# EAGLE library part TLC549 (library texas)
8 bit ADC with 3-wire output
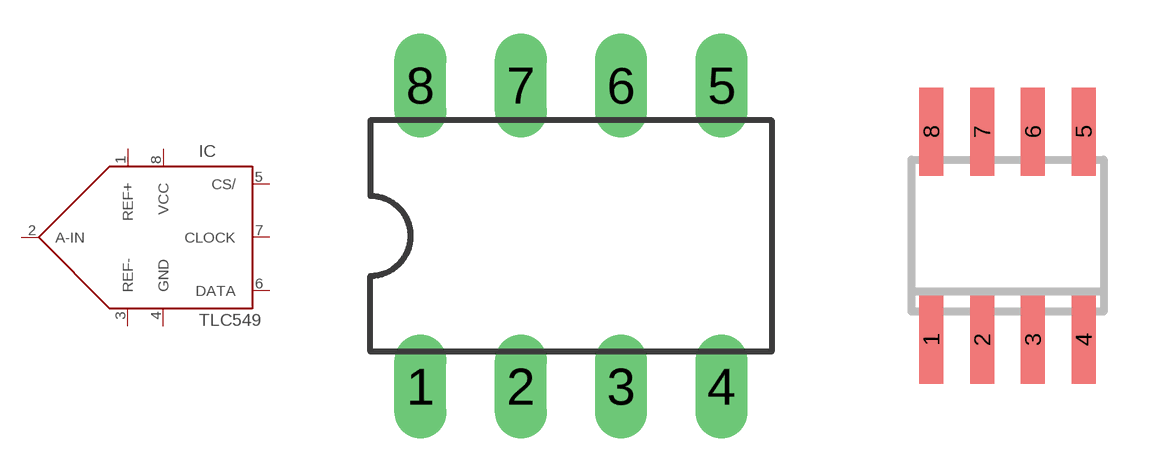
[diagram p27: symbol with the pads of DIL08; footprints DIL08, SO-08]

Designator prefix IC

## TLC549  [DIL08]
1  REF+  in
2  A-IN  in
3  REF-  in
4  GND  sup
5  CS/
6  DATA
7  CLOCK
8  VCC  sup

## TLC549SO8  [SO-08]
Pads as for DIL08

## Footprint DIL08 (pad centres in mm)
Dual In Line Package
drill 0.813 long: 1 -3.81,-3.81; 2 -1.27,-3.81; 3 1.27,-3.81; 4 3.81,-3.81; 5 3.81,3.81; 6 1.27,3.81; 7 -1.27,3.81; 8 -3.81,3.81

## Footprint SO-08 (pad centres in mm)
Small Outline Integrated Circuit
smd 0.6 x 2.2: 1 -1.905,-2.6; 2 -0.635,-2.6; 3 0.635,-2.6; 4 1.905,-2.6; 5 1.905,2.6; 6 0.635,2.6; 7 -0.635,2.6; 8 -1.905,2.6